# EAGLE library part MAX19516ETM+ (library MAX19516ETM_)
Data acquisition IC - AD converter (ADC) Maxim Integrated MAX19516ETM+ External , Internal TQFN 48 Check availability <https://pricing.snapeda.com/parts/MAX19516ETM%2B/Analog%20Devices/view-part?ref=eda>
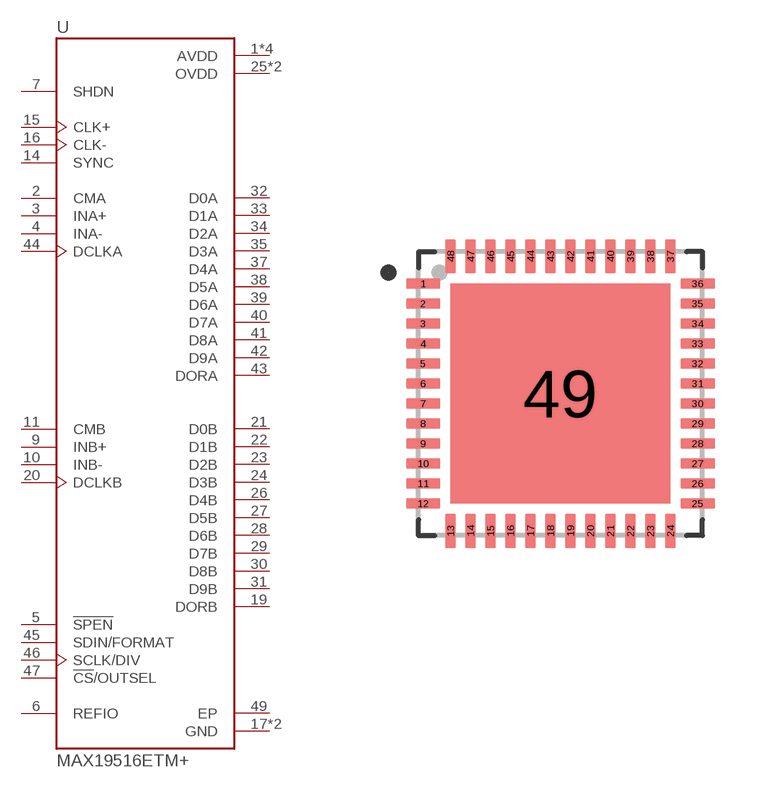
[diagram p0: symbol with the pads of QFN50P700X700X80-49N; footprint QFN50P700X700X80-49N]

Designator prefix U

## MAX19516ETM+ (Availability: In Stock; Description: Dual-Channel, 10-Bit, 100Msps ADC; MF: Analog Devices; MP: MAX19516ETM+; Package: TQFN-48 Maxim; Price: None; Purchase-URL: https://pricing.snapeda.com/search/part/MAX19516ETM+/?ref=eda)  [QFN50P700X700X80-49N]
1  AVDD  pwr
2  CMA  in
3  INA+  in
4  INA-  in
5  !SPEN  in
6  REFIO
7  SHDN  in
9  INB+  in
10  INB-  in
11  CMB  in
12  AVDD  pwr
13  AVDD  pwr
14  SYNC  in
15  CLK+  in
16  CLK-  in
17  GND  pwr
18  GND  pwr
19  DORB  out
20  DCLKB  in
21  D0B  out
22  D1B  out
23  D2B  out
24  D3B  out
25  OVDD  pwr
26  D4B  out
27  D5B  out
28  D6B  out
29  D7B  out
30  D8B  out
31  D9B  out
32  D0A  out
33  D1A  out
34  D2A  out
35  D3A  out
36  OVDD  pwr
37  D4A  out
38  D5A  out
39  D6A  out
40  D7A  out
41  D8A  out
42  D9A  out
43  DORA  out
44  DCLKA  in
45  SDIN/FORMAT
46  SCLK/DIV  in
47  !CS!/OUTSEL
48  AVDD  pwr
49  EP  pwr

## Footprint QFN50P700X700X80-49N (pad centres in mm)
smd 0.86 x 0.27: 1 -3.435,2.75; 2 -3.435,2.25; 3 -3.435,1.75; 4 -3.435,1.25; 5 -3.435,0.75; 6 -3.435,0.25; 7 -3.435,-0.25; 8 -3.435,-0.75; 9 -3.435,-1.25; 10 -3.435,-1.75; 11 -3.435,-2.25; 12 -3.435,-2.75; 25 3.435,-2.75; 26 3.435,-2.25; 27 3.435,-1.75; 28 3.435,-1.25; 29 3.435,-0.75; 30 3.435,-0.25; 31 3.435,0.25; 32 3.435,0.75; 33 3.435,1.25; 34 3.435,1.75; 35 3.435,2.25; 36 3.435,2.75
smd 0.27 x 0.86: 13 -2.75,-3.435; 14 -2.25,-3.435; 15 -1.75,-3.435; 16 -1.25,-3.435; 17 -0.75,-3.435; 18 -0.25,-3.435; 19 0.25,-3.435; 20 0.75,-3.435; 21 1.25,-3.435; 22 1.75,-3.435; 23 2.25,-3.435; 24 2.75,-3.435; 37 2.75,3.435; 38 2.25,3.435; 39 1.75,3.435; 40 1.25,3.435; 41 0.75,3.435; 42 0.25,3.435; 43 -0.25,3.435; 44 -0.75,3.435; 45 -1.25,3.435; 46 -1.75,3.435; 47 -2.25,3.435; 48 -2.75,3.435
smd 5.5 x 5.5: 49 0,0